# Altium integrated library TI Interface LVDS M-LVDS ECL CML.IntLib: 251 symbols (part 3 of 10)
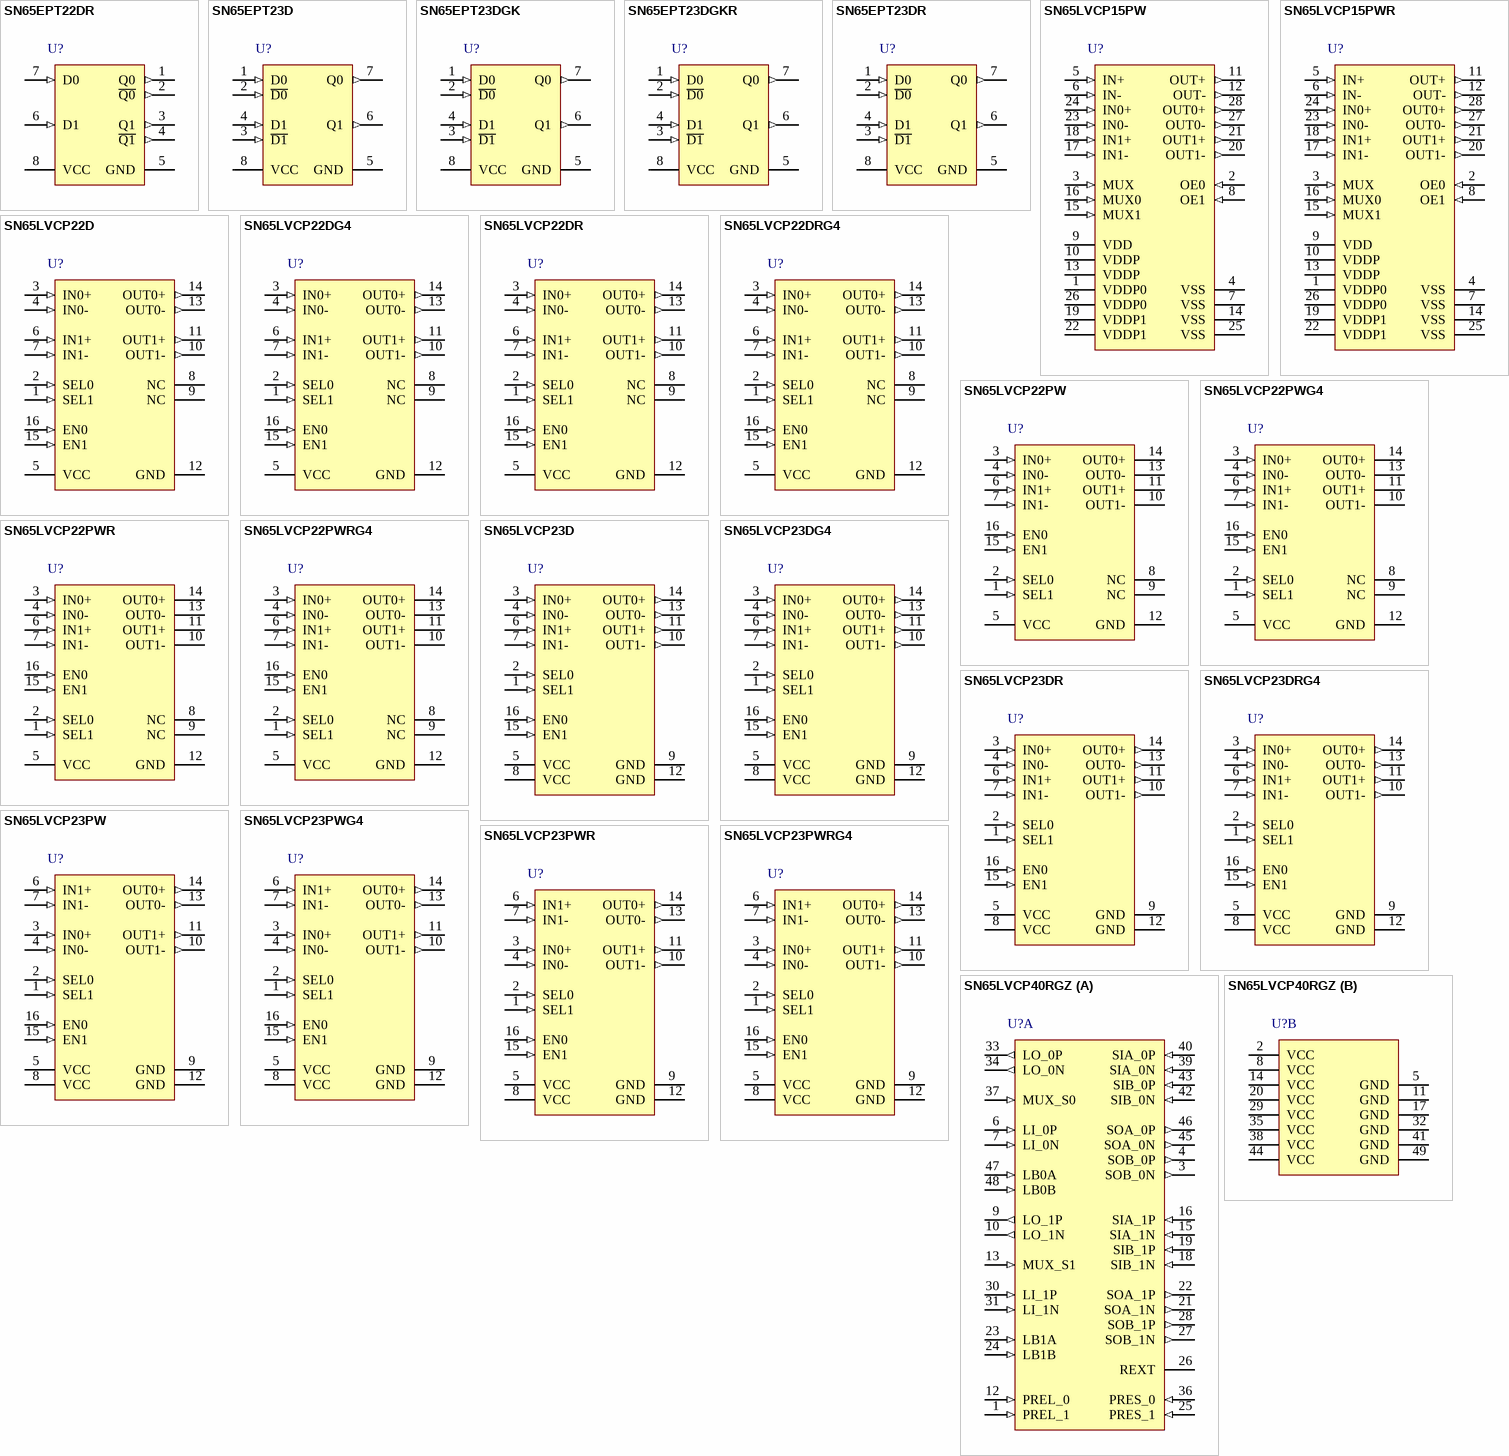
[diagram p11: symbols SN65EPT22DR to SN65LVCP40RGZ]

## SN65LVCP23PWG4
designator U?
1300 Mbps 2 x 2 Crosspoint Switch : LVPECL Outputs with CML, LVDS, LVPECL Input and LVPECL Output, 2 Tx and 2 Rx, -40 to +85 degC, 16-pin TSSOP (PW), Green (RoHS & no Sb/Br); Part-to-Part Skew(Max)(ps): 100; Manufacturer: Texas Instruments; PartNumber: SN65LVCP23PWG4; Crosspoint-Switch: TRUE; ESD HBM(kV): 5; ICC(Max)(mA): 65; No. of Rx: 2; Signaling Rate(Mbps): 1300; SubFamily: Crosspoint-Switch (>1Gbps); DatasheetVersion: SLLS554E; PackageVersion: revG, Feb-2011; PackageReference: PW16; PackageDescription: 16-Pin Plastic Thin Small Outline Package 5 x 4.4 mm Body ,0.65 mm Pitch; Eco-Plan: Green (RoHS & no Sb/Br); Function: Crosspoint; Input Signal: CML, LVDS, LVPECL; No. of Tx: 2; Output Signal: LVPECL; Peak-to-Peak Jitter(Max)(ps): 100; Mounting Technology: Surface Mount; Code_JEDEC: MO-153; ComponentLink1Description: Datasheet; ComponentLink1URL: http://www.ti.com/general/docs/lit/getliterature.tsp?genericPartNumber=SN65LVCP23&fileType=pdf; ComponentLink2Description: URL Link1; ComponentLink2URL: SamplesURL:http://www.ti.com/product/sn65lvcp23#samples
footprint PW16_N (TSOP, 16-Leads, Body 5x4.4mm, Pitch 0.65mm, IPC Medium Density)
footprint PW16_L (TSOP, 16-Leads, Body 5x4.4mm, Pitch 0.65mm, IPC High Density)
footprint PW16_M (TSOP, 16-Leads, Body 5x4.4mm, Pitch 0.65mm, IPC Low Density)
pins: 1 SEL1 (in), 2 SEL0 (in), 3 IN0+ (in), 4 IN0- (in), 5 VCC (power), 6 IN1+ (in), 7 IN1- (in), 8 VCC (power), 9 GND (power), 10 OUT1- (out), 11 OUT1+ (out), 12 GND (power), 13 OUT0- (out), 14 OUT0+ (out), 15 EN1 (in), 16 EN0 (in)

## SN65LVCP23PWR
designator U?
1300 Mbps 2 x 2 Crosspoint Switch : LVPECL Outputs with CML, LVDS, LVPECL Input and LVPECL Output, 2 Tx and 2 Rx, -40 to +85 degC, 16-pin TSSOP (PW), Green (RoHS & no Sb/Br); Part-to-Part Skew(Max)(ps): 100; Manufacturer: Texas Instruments; PartNumber: SN65LVCP23PWR; Crosspoint-Switch: TRUE; ESD HBM(kV): 5; ICC(Max)(mA): 65; No. of Rx: 2; Signaling Rate(Mbps): 1300; SubFamily: Crosspoint-Switch (>1Gbps); DatasheetVersion: SLLS554E; PackageVersion: revG, Feb-2011; PackageReference: PW16; PackageDescription: 16-Pin Plastic Thin Small Outline Package 5 x 4.4 mm Body ,0.65 mm Pitch; Eco-Plan: Green (RoHS & no Sb/Br); Function: Crosspoint; Input Signal: CML, LVDS, LVPECL; No. of Tx: 2; Output Signal: LVPECL; Peak-to-Peak Jitter(Max)(ps): 100; Mounting Technology: Surface Mount; Code_JEDEC: MO-153; ComponentLink1Description: Datasheet; ComponentLink1URL: http://www.ti.com/general/docs/lit/getliterature.tsp?genericPartNumber=SN65LVCP23&fileType=pdf; ComponentLink2Description: URL Link1; ComponentLink2URL: SamplesURL:http://www.ti.com/product/sn65lvcp23#samples
footprint PW16_N (TSOP, 16-Leads, Body 5x4.4mm, Pitch 0.65mm, IPC Medium Density)
footprint PW16_L (TSOP, 16-Leads, Body 5x4.4mm, Pitch 0.65mm, IPC High Density)
footprint PW16_M (TSOP, 16-Leads, Body 5x4.4mm, Pitch 0.65mm, IPC Low Density)
pins: 1 SEL1 (in), 2 SEL0 (in), 3 IN0+ (in), 4 IN0- (in), 5 VCC (power), 6 IN1+ (in), 7 IN1- (in), 8 VCC (power), 9 GND (power), 10 OUT1- (out), 11 OUT1+ (out), 12 GND (power), 13 OUT0- (out), 14 OUT0+ (out), 15 EN1 (in), 16 EN0 (in)

## SN65LVCP23PWRG4
designator U?
1300 Mbps 2x2 Crosspoint Switch : LVPECL Outputs with CML, LVDS, LVPECL Input, 2 Tx and 2 Rx, -40 to +85 degC, 16-pin TSSOP (PW), Green (RoHS & no Sb/Br); Part-to-Part Skew(Max)(ps): 100; Manufacturer: Texas Instruments; PartNumber: SN65LVCP23PWRG4; Crosspoint-Switch: TRUE; ESD HBM(kV): 5; ICC(Max)(mA): 65; No. of Rx: 2; Signaling Rate(Mbps): 1300; SubFamily: Crosspoint-Switch (>1Gbps); DatasheetVersion: SLLS554E; PackageVersion: revG, Feb-2011; PackageReference: PW16; PackageDescription: 16-Pin Plastic Thin Small Outline Package 5 x 4.4 mm Body ,0.65 mm Pitch; Eco-Plan: Green (RoHS & no Sb/Br); Function: Crosspoint; Input Signal: CML, LVDS, LVPECL; No. of Tx: 2; Output Signal: LVPECL; Peak-to-Peak Jitter(Max)(ps): 100; Mounting Technology: Surface Mount; Code_JEDEC: MO-153; ComponentLink1Description: Datasheet; ComponentLink1URL: http://www.ti.com/general/docs/lit/getliterature.tsp?genericPartNumber=SN65LVCP23&fileType=pdf; ComponentLink2Description: URL Link1; ComponentLink2URL: SamplesURL:http://www.ti.com/product/sn65lvcp23#samples
footprint PW16_N (TSOP, 16-Leads, Body 5x4.4mm, Pitch 0.65mm, IPC Medium Density)
footprint PW16_L (TSOP, 16-Leads, Body 5x4.4mm, Pitch 0.65mm, IPC High Density)
footprint PW16_M (TSOP, 16-Leads, Body 5x4.4mm, Pitch 0.65mm, IPC Low Density)
pins: 1 SEL1 (in), 2 SEL0 (in), 3 IN0+ (in), 4 IN0- (in), 5 VCC (power), 6 IN1+ (in), 7 IN1- (in), 8 VCC (power), 9 GND (power), 10 OUT1- (out), 11 OUT1+ (out), 12 GND (power), 13 OUT0- (out), 14 OUT0+ (out), 15 EN1 (in), 16 EN0 (in)

## SN65LVCP40RGZ
designator U?
4000 Mbps DC to 4-GBPS Dual 1:2 MUX / Repeater / Equalizer with CML, LVDS, LVPECL Input and VML Output, 6 Tx and 4 Rx, -40 to +85 degC, 48-pin VQFN (RGZ), Green (RoHS & no Sb/Br); Part-to-Part Skew(Max)(ps): 500; Manufacturer: Texas Instruments; PartNumber: SN65LVCP40RGZ; ESD HBM(kV): 2; Function: SerDes; ICC(Max)(mA): 300; No. of Rx: 4; No. of Tx: 6; Peak-to-Peak Jitter(Max)(ps): 30; Signaling Rate(Mbps): 4000; SubFamily: Crosspoint-Switch (>1Gbps); DatasheetVersion: SLLS623D; PackageVersion: revF, Jun-2011; PackageReference: RGZ48-4100X4100TP; PackageDescription: 48-Pin Plastic Quad Flatpack No-Lead, 7 x 7 mm Body, 0.5 mm Pitch; Supplier 1: Digi-Key; Supplier Part Number 1: 296-17506-ND; Supplier 2: Newark; Supplier Part Number 2: 65J6714; Supplier 3: Mouser; Supplier Part Number 3: 595-SN65LVCP40RGZ; Eco-Plan: Green (RoHS & no Sb/Br); Input Signal: CML, LVDS, LVPECL; Output Signal: VML; Mounting Technology: Surface Mount; Code_JEDEC: MO-220; ComponentLink1Description: Datasheet; ComponentLink1URL: http://www.ti.com/general/docs/lit/getliterature.tsp?genericPartNumber=SN65LVCP40&fileType=pdf; ComponentLink2Description: URL Link1; ComponentLink2URL: SamplesURL:http://www.ti.com/product/sn65lvcp40#samples
footprint RGZ48-4100X4100TP (QFN, 48-Leads, Body 7x7mm, Pitch 0.5mm, Thermal Pad 5.15x5.15mm, TI Recommended)
part A pins: 1 PREL_1 (in) "Output preemphasis control, line side port_0 and port_1. Has internal pull-up. See Preemphasis Controls PREL_0, PREL_1, PRES_0 and PRES for function definition.", 3 SOB_0N (out) "Differential output, mux_0 switch_B_side", 4 SOB_0P (out) "Differential output, mux_0 switch_B_side", 6 LI_0P (in) "Differential input, port_0 line side", 7 LI_0N (in) "Differential input, port_0 line side", 9 LO_1P (out) "Differential output, port_1 line side", 10 LO_1N (out) "Differential output, port_1 line side", 12 PREL_0 (in) "Output preemphasis control, line side port_0 and port_1. Has internal pull-up. See Preemphasis Controls PREL_0, PREL_1, PRES_0 and PRES for function definition.", 13 MUX_S1 (in) "Port A and B multiplex control of mux_0 and mux_1. See Multiplex Controls MUX_S0 and MUX_S1 for function definition.", 15 SIA_1N (in) "Differential input, mux_1 switch_A_side", 16 SIA_1P (in) "Differential input, mux_1 switch_A_side", 18 SIB_1N (in) "Differential input, mux_1 switch_B_side", 19 SIB_1P (in) "Differential input, mux_1 switch_B_side", 21 SOA_1N (out) "Differential output, mux_1 switch_A_side", 22 SOA_1P (out) "Differential output, mux_1 switch_A_side", 23 LB1A (in) "Loopback control for mux_1 switch side. See Loopback Controls LB0A, LB0B, LB1A and LB1B for function definition.", 24 LB1B (in) "Loopback control for mux_1 switch side. See Loopback Controls LB0A, LB0B, LB1A and LB1B for function definition.", 25 PRES_1 (in) "Output preemphasis control, switch side port_0 and port_1. See Preemphasis Controls PREL_0, PREL_1, PRES_0 and PRES for function definition.", 26 REXT "No connect. This pin is unused and can be left open or tied to GND with any resistor.", 27 SOB_1N (out) "Differential output, mux_1 switch_B_side", 28 SOB_1P (out) "Differential output, mux_1 switch_B_side", 30 LI_1P (in) "Differential input, port_1 line side", 31 LI_1N (in) "Differential input, port_1 line side", 33 LO_0P (out) "Differential output, port_0 line side", 34 LO_0N (out) "Differential output, port_0 line side", 36 PRES_0 (in) "Output preemphasis control, switch side port_0 and port_1. See Preemphasis Controls PREL_0, PREL_1, PRES_0 and PRES for function definition.", 37 MUX_S0 (in) "Port A and B multiplex control of mux_0 and mux_1. See Multiplex Controls MUX_S0 and MUX_S1 for function definition.", 39 SIA_0N (in) "Differential input, mux_0 switch_A_side", 40 SIA_0P (in) "Differential input, mux_0 switch_A_side", 42 SIB_0N (in) "Differential input, mux_0 switch_B_side", 43 SIB_0P (in) "Differential input, mux_0 switch_B_side", 45 SOA_0N (out) "Differential output, mux_0 switch_A_side", 46 SOA_0P (out) "Differential output, mux_0 switch_A_side", 47 LB0A (in) "Loopback control for mux_0 switch side. See Loopback Controls LB0A,LB0B, LB1A and LB1B for function definition.", 48 LB0B (in) "Loopback control for mux_0 switch side. See Loopback Controls LB0A,LB0B, LB1A and LB1B for function definition."
part B pins: 2 VCC (power) "Power supply 3.3 V +/-5%", 5 GND (power) "Power supply return", 8 VCC (power) "Power supply 3.3 V +/-5%", 11 GND (power) "Power supply return", 14 VCC (power) "Power supply 3.3 V +/-5%", 17 GND (power) "Power supply return", 20 VCC (power) "Power supply 3.3 V +/-5%", 29 VCC (power) "Power supply 3.3 V +/-5%", 32 GND (power) "Power supply return", 35 VCC (power) "Power supply 3.3 V +/-5%", 38 VCC (power) "Power supply 3.3 V +/-5%", 41 GND (power) "Power supply return", 44 VCC (power) "Power supply 3.3 V +/-5%", 49 GND (power) "The ground center pad is the metal contact at the bottom of the 48-pin package. It must be connected to the GND plane. At least 4 vias are recommended to minimize inductance and provide a solid ground. See the package (See Datasheet)"

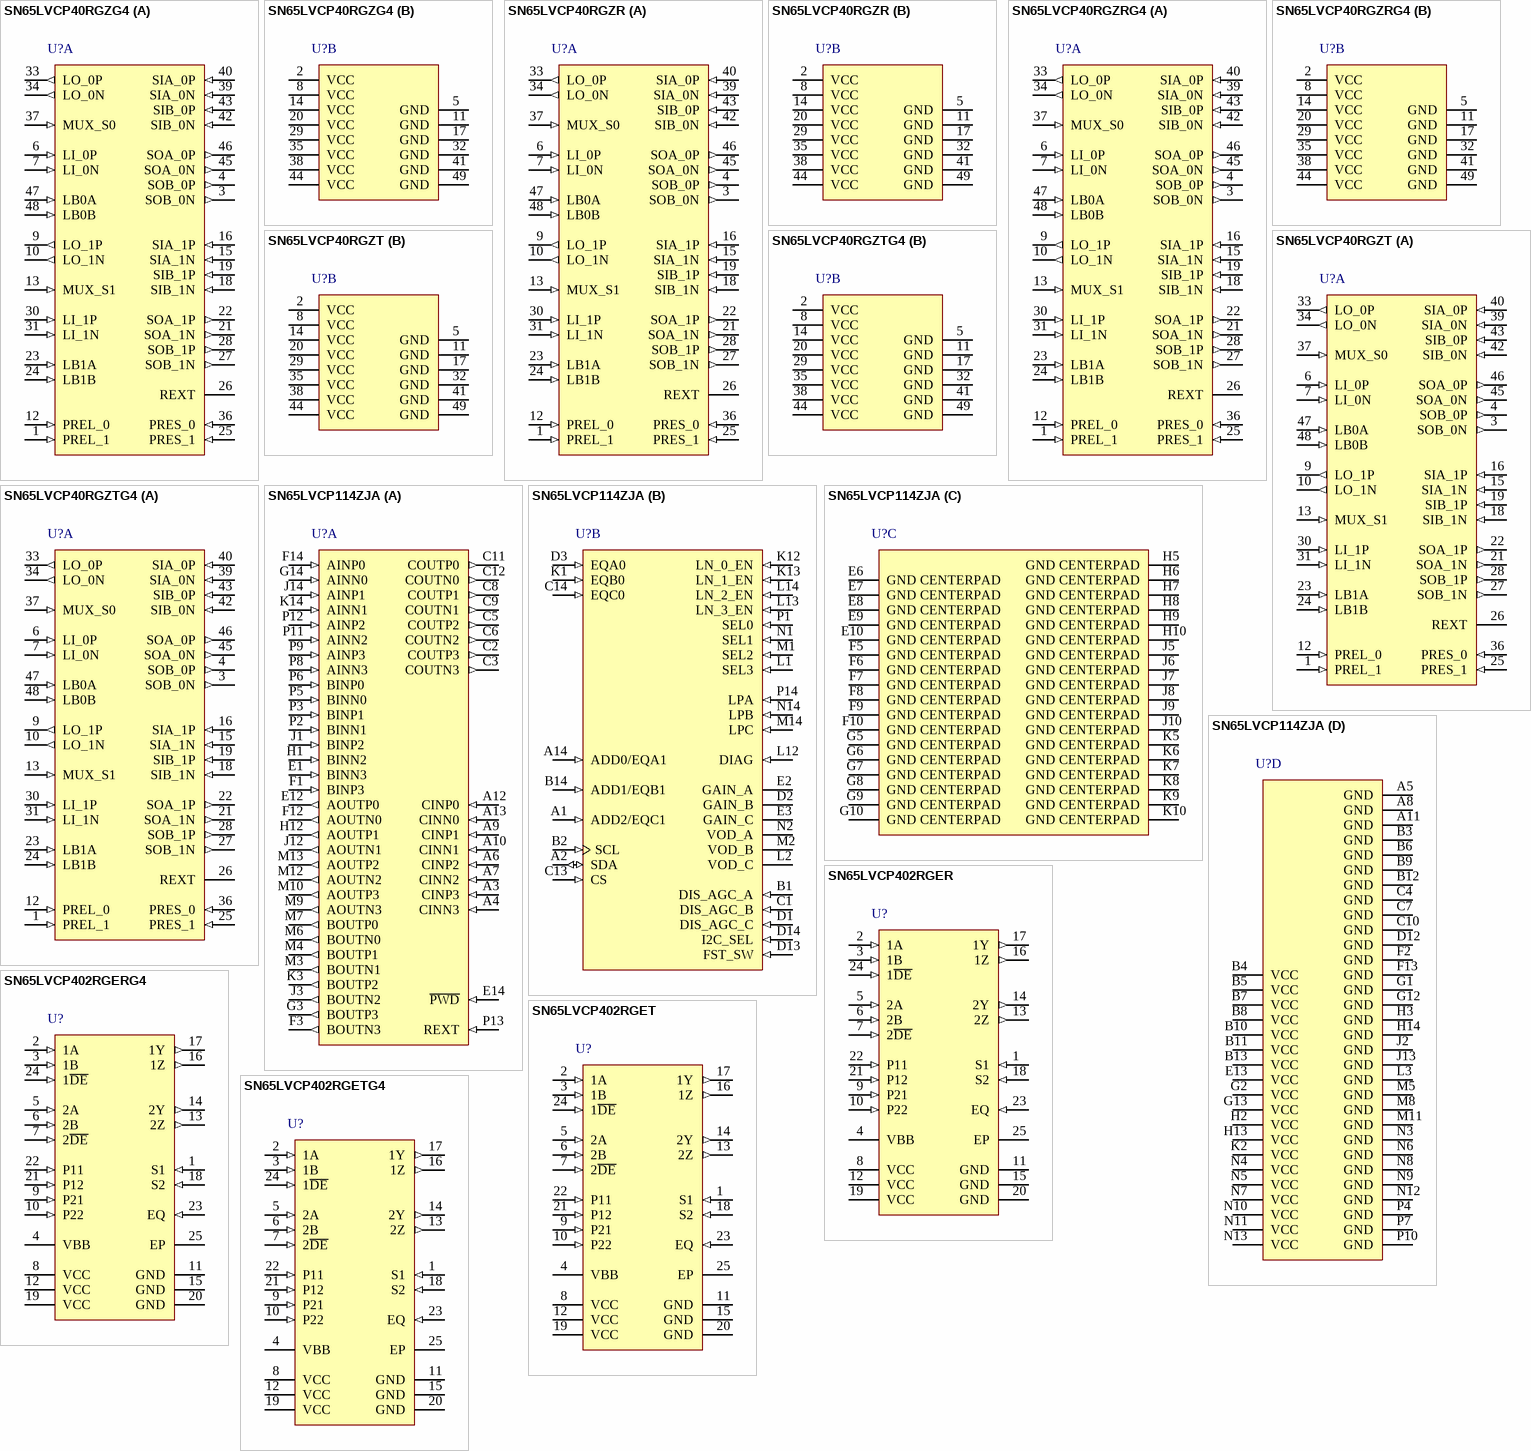
[diagram p2: symbols SN65LVCP40RGZG4 to SN65LVCP402RGETG4]

## SN65LVCP40RGZG4
designator U?
4000 Mbps DC to 4-GBPS Dual 1:2 MUX / Repeater / Equalizer with CML, LVDS, LVPECL Input and VML Output, 6 Tx and 4 Rx, -40 to +85 degC, 48-pin VQFN (RGZ), Green (RoHS & no Sb/Br); Part-to-Part Skew(Max)(ps): 500; Manufacturer: Texas Instruments; PartNumber: SN65LVCP40RGZG4; ESD HBM(kV): 2; Function: SerDes; ICC(Max)(mA): 300; No. of Rx: 4; No. of Tx: 6; Peak-to-Peak Jitter(Max)(ps): 30; Signaling Rate(Mbps): 4000; SubFamily: Crosspoint-Switch (>1Gbps); DatasheetVersion: SLLS623D; PackageVersion: revF, Jun-2011; PackageReference: RGZ48-4100X4100TP; PackageDescription: 48-Pin Plastic Quad Flatpack No-Lead, 7 x 7 mm Body, 0.5 mm Pitch; Supplier 1: Digi-Key; Supplier Part Number 1: SN65LVCP40RGZG4-ND; Supplier 2: Newark; Supplier Part Number 2: 81K3930; Supplier 3: Mouser; Supplier Part Number 3: 595-SN65LVCP40RGZG4; Eco-Plan: Green (RoHS & no Sb/Br); Input Signal: CML, LVDS, LVPECL; Output Signal: VML; Mounting Technology: Surface Mount; Code_JEDEC: MO-220; ComponentLink1Description: Datasheet; ComponentLink1URL: http://www.ti.com/general/docs/lit/getliterature.tsp?genericPartNumber=SN65LVCP40&fileType=pdf; ComponentLink2Description: URL Link1; ComponentLink2URL: SamplesURL:http://www.ti.com/product/sn65lvcp40#samples
footprint RGZ48-4100X4100TP (QFN, 48-Leads, Body 7x7mm, Pitch 0.5mm, Thermal Pad 5.15x5.15mm, TI Recommended)
part A pins: 1 PREL_1 (in) "Output preemphasis control, line side port_0 and port_1. Has internal pull-up. See Preemphasis Controls PREL_0, PREL_1, PRES_0 and PRES for function definition.", 3 SOB_0N (out) "Differential output, mux_0 switch_B_side", 4 SOB_0P (out) "Differential output, mux_0 switch_B_side", 6 LI_0P (in) "Differential input, port_0 line side", 7 LI_0N (in) "Differential input, port_0 line side", 9 LO_1P (out) "Differential output, port_1 line side", 10 LO_1N (out) "Differential output, port_1 line side", 12 PREL_0 (in) "Output preemphasis control, line side port_0 and port_1. Has internal pull-up. See Preemphasis Controls PREL_0, PREL_1, PRES_0 and PRES for function definition.", 13 MUX_S1 (in) "Port A and B multiplex control of mux_0 and mux_1. See Multiplex Controls MUX_S0 and MUX_S1 for function definition.", 15 SIA_1N (in) "Differential input, mux_1 switch_A_side", 16 SIA_1P (in) "Differential input, mux_1 switch_A_side", 18 SIB_1N (in) "Differential input, mux_1 switch_B_side", 19 SIB_1P (in) "Differential input, mux_1 switch_B_side", 21 SOA_1N (out) "Differential output, mux_1 switch_A_side", 22 SOA_1P (out) "Differential output, mux_1 switch_A_side", 23 LB1A (in) "Loopback control for mux_1 switch side. See Loopback Controls LB0A, LB0B, LB1A and LB1B for function definition.", 24 LB1B (in) "Loopback control for mux_1 switch side. See Loopback Controls LB0A, LB0B, LB1A and LB1B for function definition.", 25 PRES_1 (in) "Output preemphasis control, switch side port_0 and port_1. See Preemphasis Controls PREL_0, PREL_1, PRES_0 and PRES for function definition.", 26 REXT "No connect. This pin is unused and can be left open or tied to GND with any resistor.", 27 SOB_1N (out) "Differential output, mux_1 switch_B_side", 28 SOB_1P (out) "Differential output, mux_1 switch_B_side", 30 LI_1P (in) "Differential input, port_1 line side", 31 LI_1N (in) "Differential input, port_1 line side", 33 LO_0P (out) "Differential output, port_0 line side", 34 LO_0N (out) "Differential output, port_0 line side", 36 PRES_0 (in) "Output preemphasis control, switch side port_0 and port_1. See Preemphasis Controls PREL_0, PREL_1, PRES_0 and PRES for function definition.", 37 MUX_S0 (in) "Port A and B multiplex control of mux_0 and mux_1. See Multiplex Controls MUX_S0 and MUX_S1 for function definition.", 39 SIA_0N (in) "Differential input, mux_0 switch_A_side", 40 SIA_0P (in) "Differential input, mux_0 switch_A_side", 42 SIB_0N (in) "Differential input, mux_0 switch_B_side", 43 SIB_0P (in) "Differential input, mux_0 switch_B_side", 45 SOA_0N (out) "Differential output, mux_0 switch_A_side", 46 SOA_0P (out) "Differential output, mux_0 switch_A_side", 47 LB0A (in) "Loopback control for mux_0 switch side. See Loopback Controls LB0A,LB0B, LB1A and LB1B for function definition.", 48 LB0B (in) "Loopback control for mux_0 switch side. See Loopback Controls LB0A,LB0B, LB1A and LB1B for function definition."
part B pins: 2 VCC (power) "Power supply 3.3 V +/-5%", 5 GND (power) "Power supply return", 8 VCC (power) "Power supply 3.3 V +/-5%", 11 GND (power) "Power supply return", 14 VCC (power) "Power supply 3.3 V +/-5%", 17 GND (power) "Power supply return", 20 VCC (power) "Power supply 3.3 V +/-5%", 29 VCC (power) "Power supply 3.3 V +/-5%", 32 GND (power) "Power supply return", 35 VCC (power) "Power supply 3.3 V +/-5%", 38 VCC (power) "Power supply 3.3 V +/-5%", 41 GND (power) "Power supply return", 44 VCC (power) "Power supply 3.3 V +/-5%", 49 GND (power) "The ground center pad is the metal contact at the bottom of the 48-pin package. It must be connected to the GND plane. At least 4 vias are recommended to minimize inductance and provide a solid ground. See the package (See Datasheet)"

## SN65LVCP40RGZR
designator U?
4000 Mbps DC to 4-GBPS Dual 1:2 MUX / Repeater / Equalizer with CML, LVDS, LVPECL Input and VML Output, 6 Tx and 4 Rx, -40 to +85 degC, 48-pin VQFN (RGZ), Green (RoHS & no Sb/Br); Part-to-Part Skew(Max)(ps): 500; Manufacturer: Texas Instruments; PartNumber: SN65LVCP40RGZR; ESD HBM(kV): 2; Function: SerDes; ICC(Max)(mA): 300; No. of Rx: 4; No. of Tx: 6; Peak-to-Peak Jitter(Max)(ps): 30; Signaling Rate(Mbps): 4000; SubFamily: Crosspoint-Switch (>1Gbps); DatasheetVersion: SLLS623D; PackageVersion: revF, Jun-2011; PackageReference: RGZ48-4100X4100TP; PackageDescription: 48-Pin Plastic Quad Flatpack No-Lead, 7 x 7 mm Body, 0.5 mm Pitch; Supplier 1: Digi-Key; Supplier Part Number 1: SN65LVCP40RGZR-ND; Supplier 2: Newark; Supplier Part Number 2: 65J6715; Supplier 3: Mouser; Supplier Part Number 3: 595-SN65LVCP40RGZR; Eco-Plan: Green (RoHS & no Sb/Br); Input Signal: CML, LVDS, LVPECL; Output Signal: VML; Mounting Technology: Surface Mount; Code_JEDEC: MO-220; ComponentLink1Description: Datasheet; ComponentLink1URL: http://www.ti.com/general/docs/lit/getliterature.tsp?genericPartNumber=SN65LVCP40&fileType=pdf; ComponentLink2Description: URL Link1; ComponentLink2URL: SamplesURL:http://www.ti.com/product/sn65lvcp40#samples
footprint RGZ48-4100X4100TP (QFN, 48-Leads, Body 7x7mm, Pitch 0.5mm, Thermal Pad 5.15x5.15mm, TI Recommended)
part A pins: 1 PREL_1 (in) "Output preemphasis control, line side port_0 and port_1. Has internal pull-up. See Preemphasis Controls PREL_0, PREL_1, PRES_0 and PRES for function definition.", 3 SOB_0N (out) "Differential output, mux_0 switch_B_side", 4 SOB_0P (out) "Differential output, mux_0 switch_B_side", 6 LI_0P (in) "Differential input, port_0 line side", 7 LI_0N (in) "Differential input, port_0 line side", 9 LO_1P (out) "Differential output, port_1 line side", 10 LO_1N (out) "Differential output, port_1 line side", 12 PREL_0 (in) "Output preemphasis control, line side port_0 and port_1. Has internal pull-up. See Preemphasis Controls PREL_0, PREL_1, PRES_0 and PRES for function definition.", 13 MUX_S1 (in) "Port A and B multiplex control of mux_0 and mux_1. See Multiplex Controls MUX_S0 and MUX_S1 for function definition.", 15 SIA_1N (in) "Differential input, mux_1 switch_A_side", 16 SIA_1P (in) "Differential input, mux_1 switch_A_side", 18 SIB_1N (in) "Differential input, mux_1 switch_B_side", 19 SIB_1P (in) "Differential input, mux_1 switch_B_side", 21 SOA_1N (out) "Differential output, mux_1 switch_A_side", 22 SOA_1P (out) "Differential output, mux_1 switch_A_side", 23 LB1A (in) "Loopback control for mux_1 switch side. See Loopback Controls LB0A, LB0B, LB1A and LB1B for function definition.", 24 LB1B (in) "Loopback control for mux_1 switch side. See Loopback Controls LB0A, LB0B, LB1A and LB1B for function definition.", 25 PRES_1 (in) "Output preemphasis control, switch side port_0 and port_1. See Preemphasis Controls PREL_0, PREL_1, PRES_0 and PRES for function definition.", 26 REXT "No connect. This pin is unused and can be left open or tied to GND with any resistor.", 27 SOB_1N (out) "Differential output, mux_1 switch_B_side", 28 SOB_1P (out) "Differential output, mux_1 switch_B_side", 30 LI_1P (in) "Differential input, port_1 line side", 31 LI_1N (in) "Differential input, port_1 line side", 33 LO_0P (out) "Differential output, port_0 line side", 34 LO_0N (out) "Differential output, port_0 line side", 36 PRES_0 (in) "Output preemphasis control, switch side port_0 and port_1. See Preemphasis Controls PREL_0, PREL_1, PRES_0 and PRES for function definition.", 37 MUX_S0 (in) "Port A and B multiplex control of mux_0 and mux_1. See Multiplex Controls MUX_S0 and MUX_S1 for function definition.", 39 SIA_0N (in) "Differential input, mux_0 switch_A_side", 40 SIA_0P (in) "Differential input, mux_0 switch_A_side", 42 SIB_0N (in) "Differential input, mux_0 switch_B_side", 43 SIB_0P (in) "Differential input, mux_0 switch_B_side", 45 SOA_0N (out) "Differential output, mux_0 switch_A_side", 46 SOA_0P (out) "Differential output, mux_0 switch_A_side", 47 LB0A (in) "Loopback control for mux_0 switch side. See Loopback Controls LB0A,LB0B, LB1A and LB1B for function definition.", 48 LB0B (in) "Loopback control for mux_0 switch side. See Loopback Controls LB0A,LB0B, LB1A and LB1B for function definition."
part B pins: 2 VCC (power) "Power supply 3.3 V +/-5%", 5 GND (power) "Power supply return", 8 VCC (power) "Power supply 3.3 V +/-5%", 11 GND (power) "Power supply return", 14 VCC (power) "Power supply 3.3 V +/-5%", 17 GND (power) "Power supply return", 20 VCC (power) "Power supply 3.3 V +/-5%", 29 VCC (power) "Power supply 3.3 V +/-5%", 32 GND (power) "Power supply return", 35 VCC (power) "Power supply 3.3 V +/-5%", 38 VCC (power) "Power supply 3.3 V +/-5%", 41 GND (power) "Power supply return", 44 VCC (power) "Power supply 3.3 V +/-5%", 49 GND (power) "The ground center pad is the metal contact at the bottom of the 48-pin package. It must be connected to the GND plane. At least 4 vias are recommended to minimize inductance and provide a solid ground. See the package (See Datasheet)"

## SN65LVCP40RGZRG4
designator U?
4000 Mbps DC to 4-GBPS Dual 1:2 MUX / Repeater / Equalizer with CML, LVDS, LVPECL Input and VML Output, 6 Tx and 4 Rx, -40 to +85 degC, 48-pin VQFN (RGZ), Green (RoHS & no Sb/Br); Part-to-Part Skew(Max)(ps): 500; Manufacturer: Texas Instruments; PartNumber: SN65LVCP40RGZRG4; ESD HBM(kV): 2; Function: SerDes; ICC(Max)(mA): 300; No. of Rx: 4; No. of Tx: 6; Peak-to-Peak Jitter(Max)(ps): 30; Signaling Rate(Mbps): 4000; SubFamily: Crosspoint-Switch (>1Gbps); DatasheetVersion: SLLS623D; PackageVersion: revF, Jun-2011; PackageReference: RGZ48-4100X4100TP; PackageDescription: 48-Pin Plastic Quad Flatpack No-Lead, 7 x 7 mm Body, 0.5 mm Pitch; Supplier 1: Digi-Key; Supplier Part Number 1: SN65LVCP40RGZRG4-ND; Supplier 2: Newark; Supplier Part Number 2: 81K3931; Supplier 3: Mouser; Supplier Part Number 3: 595-SN65LVCP40RGZRG4; Eco-Plan: Green (RoHS & no Sb/Br); Input Signal: CML, LVDS, LVPECL; Output Signal: VML; Mounting Technology: Surface Mount; Code_JEDEC: MO-220; ComponentLink1Description: Datasheet; ComponentLink1URL: http://www.ti.com/general/docs/lit/getliterature.tsp?genericPartNumber=SN65LVCP40&fileType=pdf; ComponentLink2Description: URL Link1; ComponentLink2URL: SamplesURL:http://www.ti.com/product/sn65lvcp40#samples
footprint RGZ48-4100X4100TP (QFN, 48-Leads, Body 7x7mm, Pitch 0.5mm, Thermal Pad 5.15x5.15mm, TI Recommended)
part A pins: 1 PREL_1 (in) "Output preemphasis control, line side port_0 and port_1. Has internal pull-up. See Preemphasis Controls PREL_0, PREL_1, PRES_0 and PRES for function definition.", 3 SOB_0N (out) "Differential output, mux_0 switch_B_side", 4 SOB_0P (out) "Differential output, mux_0 switch_B_side", 6 LI_0P (in) "Differential input, port_0 line side", 7 LI_0N (in) "Differential input, port_0 line side", 9 LO_1P (out) "Differential output, port_1 line side", 10 LO_1N (out) "Differential output, port_1 line side", 12 PREL_0 (in) "Output preemphasis control, line side port_0 and port_1. Has internal pull-up. See Preemphasis Controls PREL_0, PREL_1, PRES_0 and PRES for function definition.", 13 MUX_S1 (in) "Port A and B multiplex control of mux_0 and mux_1. See Multiplex Controls MUX_S0 and MUX_S1 for function definition.", 15 SIA_1N (in) "Differential input, mux_1 switch_A_side", 16 SIA_1P (in) "Differential input, mux_1 switch_A_side", 18 SIB_1N (in) "Differential input, mux_1 switch_B_side", 19 SIB_1P (in) "Differential input, mux_1 switch_B_side", 21 SOA_1N (out) "Differential output, mux_1 switch_A_side", 22 SOA_1P (out) "Differential output, mux_1 switch_A_side", 23 LB1A (in) "Loopback control for mux_1 switch side. See Loopback Controls LB0A, LB0B, LB1A and LB1B for function definition.", 24 LB1B (in) "Loopback control for mux_1 switch side. See Loopback Controls LB0A, LB0B, LB1A and LB1B for function definition.", 25 PRES_1 (in) "Output preemphasis control, switch side port_0 and port_1. See Preemphasis Controls PREL_0, PREL_1, PRES_0 and PRES for function definition.", 26 REXT "No connect. This pin is unused and can be left open or tied to GND with any resistor.", 27 SOB_1N (out) "Differential output, mux_1 switch_B_side", 28 SOB_1P (out) "Differential output, mux_1 switch_B_side", 30 LI_1P (in) "Differential input, port_1 line side", 31 LI_1N (in) "Differential input, port_1 line side", 33 LO_0P (out) "Differential output, port_0 line side", 34 LO_0N (out) "Differential output, port_0 line side", 36 PRES_0 (in) "Output preemphasis control, switch side port_0 and port_1. See Preemphasis Controls PREL_0, PREL_1, PRES_0 and PRES for function definition.", 37 MUX_S0 (in) "Port A and B multiplex control of mux_0 and mux_1. See Multiplex Controls MUX_S0 and MUX_S1 for function definition.", 39 SIA_0N (in) "Differential input, mux_0 switch_A_side", 40 SIA_0P (in) "Differential input, mux_0 switch_A_side", 42 SIB_0N (in) "Differential input, mux_0 switch_B_side", 43 SIB_0P (in) "Differential input, mux_0 switch_B_side", 45 SOA_0N (out) "Differential output, mux_0 switch_A_side", 46 SOA_0P (out) "Differential output, mux_0 switch_A_side", 47 LB0A (in) "Loopback control for mux_0 switch side. See Loopback Controls LB0A,LB0B, LB1A and LB1B for function definition.", 48 LB0B (in) "Loopback control for mux_0 switch side. See Loopback Controls LB0A,LB0B, LB1A and LB1B for function definition."
part B pins: 2 VCC (power) "Power supply 3.3 V +/-5%", 5 GND (power) "Power supply return", 8 VCC (power) "Power supply 3.3 V +/-5%", 11 GND (power) "Power supply return", 14 VCC (power) "Power supply 3.3 V +/-5%", 17 GND (power) "Power supply return", 20 VCC (power) "Power supply 3.3 V +/-5%", 29 VCC (power) "Power supply 3.3 V +/-5%", 32 GND (power) "Power supply return", 35 VCC (power) "Power supply 3.3 V +/-5%", 38 VCC (power) "Power supply 3.3 V +/-5%", 41 GND (power) "Power supply return", 44 VCC (power) "Power supply 3.3 V +/-5%", 49 GND (power) "The ground center pad is the metal contact at the bottom of the 48-pin package. It must be connected to the GND plane. At least 4 vias are recommended to minimize inductance and provide a solid ground. See the package (See Datasheet)"

## SN65LVCP40RGZT
designator U?
4 Gbps DC to Dual 1:2 MUX / Repeater / Equalizer, 6 Tx and 4 Rx, -40 to +85 degC, 48-pin VQFN (RGZ), Green (RoHS & no Sb/Br); Part-to-Part Skew(Max)(ps): 500; Manufacturer: Texas Instruments; PartNumber: SN65LVCP40RGZT; ESD HBM(kV): 2; Function: SerDes; ICC(Max)(mA): 300; Input Signal: CML, LVDS, LVPECL; No. of Rx: 4; No. of Tx: 6; Output Signal: VML; Peak-to-Peak Jitter(Max)(ps): 30; Signaling Rate(Mbps): 4000; SubFamily: Crosspoint-Switch (>1Gbps); DatasheetVersion: SLLS623D; PackageVersion: revF, Jun-2011; PackageReference: RGZ48-4100X4100TP; PackageDescription: 48-Pin Plastic Quad Flatpack No-Lead, 7 x 7 mm Body, 0.5 mm Pitch; Supplier 1: Digi-Key; Supplier Part Number 1: 296-21987-1-ND; Supplier 2: Digi-Key; Supplier Part Number 2: 296-21987-6-ND; Supplier 3: Digi-Key; Supplier Part Number 3: 296-21987-2-ND; Supplier 4: Newark; Supplier Part Number 4: 52M6010; Supplier 5: Mouser; Supplier Part Number 5: 595-SN65LVCP40RGZT; Eco-Plan: Green (RoHS & no Sb/Br); Mounting Technology: Surface Mount; Code_JEDEC: MO-220; ComponentLink1Description: Datasheet; ComponentLink1URL: http://www.ti.com/general/docs/lit/getliterature.tsp?genericPartNumber=SN65LVCP40&fileType=pdf; ComponentLink2Description: URL Link1; ComponentLink2URL: SamplesURL:http://www.ti.com/product/sn65lvcp40#samples
footprint RGZ48-4100X4100TP (QFN, 48-Leads, Body 7x7mm, Pitch 0.5mm, Thermal Pad 5.15x5.15mm, TI Recommended)
part A pins: 1 PREL_1 (in) "Output preemphasis control, line side port_0 and port_1. Has internal pull-up. See Preemphasis Controls PREL_0, PREL_1, PRES_0 and PRES for function definition.", 3 SOB_0N (out) "Differential output, mux_0 switch_B_side", 4 SOB_0P (out) "Differential output, mux_0 switch_B_side", 6 LI_0P (in) "Differential input, port_0 line side", 7 LI_0N (in) "Differential input, port_0 line side", 9 LO_1P (out) "Differential output, port_1 line side", 10 LO_1N (out) "Differential output, port_1 line side", 12 PREL_0 (in) "Output preemphasis control, line side port_0 and port_1. Has internal pull-up. See Preemphasis Controls PREL_0, PREL_1, PRES_0 and PRES for function definition.", 13 MUX_S1 (in) "Port A and B multiplex control of mux_0 and mux_1. See Multiplex Controls MUX_S0 and MUX_S1 for function definition.", 15 SIA_1N (in) "Differential input, mux_1 switch_A_side", 16 SIA_1P (in) "Differential input, mux_1 switch_A_side", 18 SIB_1N (in) "Differential input, mux_1 switch_B_side", 19 SIB_1P (in) "Differential input, mux_1 switch_B_side", 21 SOA_1N (out) "Differential output, mux_1 switch_A_side", 22 SOA_1P (out) "Differential output, mux_1 switch_A_side", 23 LB1A (in) "Loopback control for mux_1 switch side. See Loopback Controls LB0A, LB0B, LB1A and LB1B for function definition.", 24 LB1B (in) "Loopback control for mux_1 switch side. See Loopback Controls LB0A, LB0B, LB1A and LB1B for function definition.", 25 PRES_1 (in) "Output preemphasis control, switch side port_0 and port_1. See Preemphasis Controls PREL_0, PREL_1, PRES_0 and PRES for function definition.", 26 REXT "No connect. This pin is unused and can be left open or tied to GND with any resistor.", 27 SOB_1N (out) "Differential output, mux_1 switch_B_side", 28 SOB_1P (out) "Differential output, mux_1 switch_B_side", 30 LI_1P (in) "Differential input, port_1 line side", 31 LI_1N (in) "Differential input, port_1 line side", 33 LO_0P (out) "Differential output, port_0 line side", 34 LO_0N (out) "Differential output, port_0 line side", 36 PRES_0 (in) "Output preemphasis control, switch side port_0 and port_1. See Preemphasis Controls PREL_0, PREL_1, PRES_0 and PRES for function definition.", 37 MUX_S0 (in) "Port A and B multiplex control of mux_0 and mux_1. See Multiplex Controls MUX_S0 and MUX_S1 for function definition.", 39 SIA_0N (in) "Differential input, mux_0 switch_A_side", 40 SIA_0P (in) "Differential input, mux_0 switch_A_side", 42 SIB_0N (in) "Differential input, mux_0 switch_B_side", 43 SIB_0P (in) "Differential input, mux_0 switch_B_side", 45 SOA_0N (out) "Differential output, mux_0 switch_A_side", 46 SOA_0P (out) "Differential output, mux_0 switch_A_side", 47 LB0A (in) "Loopback control for mux_0 switch side. See Loopback Controls LB0A,LB0B, LB1A and LB1B for function definition.", 48 LB0B (in) "Loopback control for mux_0 switch side. See Loopback Controls LB0A,LB0B, LB1A and LB1B for function definition."
part B pins: 2 VCC (power) "Power supply 3.3 V +/-5%", 5 GND (power) "Power supply return", 8 VCC (power) "Power supply 3.3 V +/-5%", 11 GND (power) "Power supply return", 14 VCC (power) "Power supply 3.3 V +/-5%", 17 GND (power) "Power supply return", 20 VCC (power) "Power supply 3.3 V +/-5%", 29 VCC (power) "Power supply 3.3 V +/-5%", 32 GND (power) "Power supply return", 35 VCC (power) "Power supply 3.3 V +/-5%", 38 VCC (power) "Power supply 3.3 V +/-5%", 41 GND (power) "Power supply return", 44 VCC (power) "Power supply 3.3 V +/-5%", 49 GND (power) "The ground center pad is the metal contact at the bottom of the 48-pin package. It must be connected to the GND plane. At least 4 vias are recommended to minimize inductance and provide a solid ground. See the package (See Datasheet)"

## SN65LVCP40RGZTG4
designator U?
4000 Mbps DC to 4-GBPS Dual 1:2 MUX / Repeater / Equalizer with CML, LVDS, LVPECL Input and VML Output, 6 Tx and 4 Rx, -40 to +85 degC, 48-pin VQFN (RGZ), Green (RoHS & no Sb/Br); Part-to-Part Skew(Max)(ps): 500; Manufacturer: Texas Instruments; PartNumber: SN65LVCP40RGZTG4; ESD HBM(kV): 2; Function: SerDes; ICC(Max)(mA): 300; No. of Rx: 4; No. of Tx: 6; Peak-to-Peak Jitter(Max)(ps): 30; Signaling Rate(Mbps): 4000; SubFamily: Crosspoint-Switch (>1Gbps); DatasheetVersion: SLLS623D; PackageVersion: revF, Jun-2011; PackageReference: RGZ48-4100X4100TP; PackageDescription: 48-Pin Plastic Quad Flatpack No-Lead, 7 x 7 mm Body, 0.5 mm Pitch; Supplier 1: Digi-Key; Supplier Part Number 1: SN65LVCP40RGZTG4-ND; Supplier 2: Newark; Supplier Part Number 2: 52M6011; Supplier 3: Mouser; Supplier Part Number 3: 595-SN65LVCP40RGZTG4; Eco-Plan: Green (RoHS & no Sb/Br); Input Signal: CML, LVDS, LVPECL; Output Signal: VML; Mounting Technology: Surface Mount; Code_JEDEC: MO-220; ComponentLink1Description: Datasheet; ComponentLink1URL: http://www.ti.com/general/docs/lit/getliterature.tsp?genericPartNumber=SN65LVCP40&fileType=pdf; ComponentLink2Description: URL Link1; ComponentLink2URL: SamplesURL:http://www.ti.com/product/sn65lvcp40#samples
footprint RGZ48-4100X4100TP (QFN, 48-Leads, Body 7x7mm, Pitch 0.5mm, Thermal Pad 5.15x5.15mm, TI Recommended)
part A pins: 1 PREL_1 (in) "Output preemphasis control, line side port_0 and port_1. Has internal pull-up. See Preemphasis Controls PREL_0, PREL_1, PRES_0 and PRES for function definition.", 3 SOB_0N (out) "Differential output, mux_0 switch_B_side", 4 SOB_0P (out) "Differential output, mux_0 switch_B_side", 6 LI_0P (in) "Differential input, port_0 line side", 7 LI_0N (in) "Differential input, port_0 line side", 9 LO_1P (out) "Differential output, port_1 line side", 10 LO_1N (out) "Differential output, port_1 line side", 12 PREL_0 (in) "Output preemphasis control, line side port_0 and port_1. Has internal pull-up. See Preemphasis Controls PREL_0, PREL_1, PRES_0 and PRES for function definition.", 13 MUX_S1 (in) "Port A and B multiplex control of mux_0 and mux_1. See Multiplex Controls MUX_S0 and MUX_S1 for function definition.", 15 SIA_1N (in) "Differential input, mux_1 switch_A_side", 16 SIA_1P (in) "Differential input, mux_1 switch_A_side", 18 SIB_1N (in) "Differential input, mux_1 switch_B_side", 19 SIB_1P (in) "Differential input, mux_1 switch_B_side", 21 SOA_1N (out) "Differential output, mux_1 switch_A_side", 22 SOA_1P (out) "Differential output, mux_1 switch_A_side", 23 LB1A (in) "Loopback control for mux_1 switch side. See Loopback Controls LB0A, LB0B, LB1A and LB1B for function definition.", 24 LB1B (in) "Loopback control for mux_1 switch side. See Loopback Controls LB0A, LB0B, LB1A and LB1B for function definition.", 25 PRES_1 (in) "Output preemphasis control, switch side port_0 and port_1. See Preemphasis Controls PREL_0, PREL_1, PRES_0 and PRES for function definition.", 26 REXT "No connect. This pin is unused and can be left open or tied to GND with any resistor.", 27 SOB_1N (out) "Differential output, mux_1 switch_B_side", 28 SOB_1P (out) "Differential output, mux_1 switch_B_side", 30 LI_1P (in) "Differential input, port_1 line side", 31 LI_1N (in) "Differential input, port_1 line side", 33 LO_0P (out) "Differential output, port_0 line side", 34 LO_0N (out) "Differential output, port_0 line side", 36 PRES_0 (in) "Output preemphasis control, switch side port_0 and port_1. See Preemphasis Controls PREL_0, PREL_1, PRES_0 and PRES for function definition.", 37 MUX_S0 (in) "Port A and B multiplex control of mux_0 and mux_1. See Multiplex Controls MUX_S0 and MUX_S1 for function definition.", 39 SIA_0N (in) "Differential input, mux_0 switch_A_side", 40 SIA_0P (in) "Differential input, mux_0 switch_A_side", 42 SIB_0N (in) "Differential input, mux_0 switch_B_side", 43 SIB_0P (in) "Differential input, mux_0 switch_B_side", 45 SOA_0N (out) "Differential output, mux_0 switch_A_side", 46 SOA_0P (out) "Differential output, mux_0 switch_A_side", 47 LB0A (in) "Loopback control for mux_0 switch side. See Loopback Controls LB0A,LB0B, LB1A and LB1B for function definition.", 48 LB0B (in) "Loopback control for mux_0 switch side. See Loopback Controls LB0A,LB0B, LB1A and LB1B for function definition."
part B pins: 2 VCC (power) "Power supply 3.3 V +/-5%", 5 GND (power) "Power supply return", 8 VCC (power) "Power supply 3.3 V +/-5%", 11 GND (power) "Power supply return", 14 VCC (power) "Power supply 3.3 V +/-5%", 17 GND (power) "Power supply return", 20 VCC (power) "Power supply 3.3 V +/-5%", 29 VCC (power) "Power supply 3.3 V +/-5%", 32 GND (power) "Power supply return", 35 VCC (power) "Power supply 3.3 V +/-5%", 38 VCC (power) "Power supply 3.3 V +/-5%", 41 GND (power) "Power supply return", 44 VCC (power) "Power supply 3.3 V +/-5%", 49 GND (power) "The ground center pad is the metal contact at the bottom of the 48-pin package. It must be connected to the GND plane. At least 4 vias are recommended to minimize inductance and provide a solid ground. See the package (See Datasheet)"

## SN65LVCP114ZJA
designator U?
14.2 Gbps Quad Mux, Linear-Redriver with Signal Conditioning with CML Input and CML Output, 4 or 8 Tx and 8 or 4 Rx, -40 to +85 degC, 167-pin NFBGA (ZJA), Green (RoHS & no Sb/Br); Manufacturer: Texas Instruments; PartNumber: SN65LVCP114ZJA; ESD HBM(kV): 4; Function: Equalizer and Redriver, Multiplexer; ICC(Max)(mA): 560; No. of Rx: 8-or-4; No. of Tx: 4-or-8; Signaling Rate(Mbps): 14200; SubFamily: Crosspoint-Switch (>1Gbps); DatasheetVersion: SLLSEA8; PackageVersion: revC, Nov-2010; PackageReference: ZJA167; PackageDescription: 167-Ball Plastic Ball Grid Array, 12 x 12 mm Body, 0.8 mm Pitch, Pb-Free; Supplier 1: Digi-Key; Supplier Part Number 1: SN65LVCP114ZJA-ND; Supplier 2: Newark; Supplier Part Number 2: 82T4171; Supplier 3: Mouser; Supplier Part Number 3: 595-SN65LVCP114ZJA; Eco-Plan: Green (RoHS & no Sb/Br); Input Signal: CML; Output Signal: CML; Mounting Technology: Surface Mount; ComponentLink1Description: Datasheet; ComponentLink1URL: http://www.ti.com/general/docs/lit/getliterature.tsp?genericPartNumber=SN65LVCP114&fileType=pdf; ComponentLink2Description: URL Link1; ComponentLink2URL: SamplesURL:http://www.ti.com/product/sn65lvcp114#samples
footprint ZJA167 (BGA, 167-Leads, Body 12x12mm, Pitch 0.8mm)
part A pins: A3 CINP3 (in) "Differential input, lane 3 line side", A4 CINN3 (in) "Differential input, lane 3 line side", A6 CINP2 (in) "Differential input, lane 2 line side", A7 CINN2 (in) "Differential input, lane 2 line side", A9 CINP1 (in) "Differential input, lane 1 line side", A10 CINN1 (in) "Differential input, lane 1 line side", A12 CINP0 (in) "Differential input, lane 0 line side.", A13 CINN0 (in) "Differential input, lane 0 line side.", C2 COUTP3 (out) "Differential output, lane 3 line side", C3 COUTN3 (out) "Differential output, lane 3 line side", C5 COUTP2 (out) "Differential output, lane 2 line side", C6 COUTN2 (out) "Differential output, lane 2 line side", C8 COUTP1 (out) "Differential output, lane 1 line side", C9 COUTN1 (out) "Differential output, lane 1 line side", C11 COUTP0 (out) "Differential output, lane 0 line side", C12 COUTN0 (out) "Differential output, lane 0 line side", E1 BINN3 (in) "Differential input, lane 3, fabric switch_B_side", E12 AOUTP0 (out) "Differential output, lane 0, fabric switch_A_side", E14 ~{PWD} (in) "LOW: Powers down the device, inputs off and outputs disabled, resets I2C HIGH: Normal operation", F1 BINP3 (in) "Differential input, lane 3, fabric switch_B_side", F3 BOUTN3 (out) "Differential output, lane 3, fabric switch_B_side", F12 AOUTN0 (out) "Differential output, lane 0, fabric switch_A_side", F14 AINP0 (in) "Differential input, lane 0, fabric switch_A_side", G3 BOUTP3 (out) "Differential output, lane 3, fabric switch_B_side", G14 AINN0 (in) "Differential input, lane 0, fabric switch_A_side", H1 BINN2 (in) "Differential input, lane 2, fabric switch_B_side", H12 AOUTP1 (out) "Differential output, lane 1, fabric switch_A_side", J1 BINP2 (in) "Differential input, lane 2, fabric switch_B_side", J3 BOUTN2 (out) "Differential output, lane 2, fabric switch_B_side", J12 AOUTN1 (out) "Differential output, lane 1, fabric switch_A_side", J14 AINP1 (in) "Differential input, lane 1, fabric switch_A_side", K3 BOUTP2 (out) "Differential output, lane 2, fabric switch_B_side", K14 AINN1 (in) "Differential input, lane 1, fabric switch_A_side", M3 BOUTN1 (out) "Differential output, lane 1, fabric switch_B_side", M4 BOUTP1 (out) "Differential output, lane 1, fabric switch_B_side", M6 BOUTN0 (out) "Differential output, lane 0, fabric switch_B_side", M7 BOUTP0 (out) "Differential output, lane 0, fabric switch_B_side", M9 AOUTN3 (out) "Differential output, lane 3, fabric switch_A_side", M10 AOUTP3 (out) "Differential output, lane 3, fabric switch_A_side", M12 AOUTN2 (out) "Differential output, lane 2, fabric switch_A_side", M13 AOUTP2 (out) "Differential output, lane 2, fabric switch_A_side", P2 BINN1 (in) "Differential input, lane 1, fabric switch_B_side", P3 BINP1 (in) "Differential input, lane 1, fabric switch_B_side", P5 BINN0 (in) "Differential input, lane 0, fabric switch_B_side", P6 BINP0 (in) "Differential input, lane 0, fabric switch_B_side", P8 AINN3 (in) "Differential input, lane 3, fabric switch_A_side", P9 AINP3 (in) "Differential input, lane 3, fabric switch_A_side", P11 AINN2 (in) "Differential input, lane 2, fabric switch_A_side", P12 AINP2 (in) "Differential input, lane 2, fabric switch_A_side", P13 REXT (in) "External bias resistor, 1,200 ohm to ground"
part B pins: A1 ADD2/EQC1 (in) "EQ control pins. EQC1 and EQC0 pins are 3-state and control the EQ gain of port C.", A2 SDA (io) "I2C mode I2C data. Connect a 10-k ohm pullup resistor externally", A14 ADD0/EQA1 (in) "EQ control pins. EQA1 and EQA0 pins are 3-state and control the EQ gain of port A.", B1 DIS_AGC_A (in) "Disables the AGC loop internal to the SN65LVCP114 DIS_AGC = High, disables the AGC loop DIS_AGC = Low, enables the AGC loop", B2 SCL (in) "I2C mode I2C clock. Connect a 10-k ohm pullup resistor externally", B14 ADD1/EQB1 (in) "EQ control pins. EQB1 and EQB0 pins are 3-state and control the EQ gain of port B.", C1 DIS_AGC_B (in) "Disables the AGC loop internal to the SN65LVCP114 DIS_AGC = High, disables the AGC loop DIS_AGC = Low, enables the AGC loop", C13 CS (in) "I2C mode HIGH: acts as chip select LOW: disables I2C interface", C14 EQC0 (in) "EQ control pins. EQC1 and EQC0 pins are 3-state and control the EQ gain of port C.", D1 DIS_AGC_C (in) "Disables the AGC loop internal to the SN65LVCP114 DIS_AGC = High, disables the AGC loop DIS_AGC = Low, enables the AGC loop", D2 GAIN_B "HIGH: Receiver gain = 1 LOW: Receiver gain = 0.5 If left floating, it defaults to 0.6", D3 EQA0 (in) "EQ control pins. EQA1 and EQA0 pins are 3-state and control the EQ gain of port A.", D13 FST_SW (in) "HIGH: Fast switching; the idle outputs are squelched (see Tsm specification).LOW: Slow switching; the idle outputs are powered off (see tSM1 specification).", D14 I2C_SEL (in) "Configures the device in I2C or GPIO mode of operation HIGH: Enables I2C mode LOW: Enables GPIO mode", E2 GAIN_A "HIGH: Receiver gain = 1 LOW: Receiver gain = 0.5 If left floating, it defaults to 0.5", E3 GAIN_C "HIGH: Receiver gain = 1 LOW: Receiver gain = 0.5 If left floating, it defaults to 0.7", K1 EQB0 (in) "EQ control pins. EQB1 and EQB0 pins are 3-state and control the EQ gain of port B.", K12 LN_0_EN (in) "LN_x_EN = High, enables lane x of ports A, B, and C LN_x_EN = Low, disables lane x of ports A, B, and C", K13 LN_1_EN (in) "LN_x_EN = High, enables lane x of ports A, B, and C LN_x_EN = Low, disables lane x of ports A, B, and C", L1 SEL3 (in) "SELx, A/B switch control for lane x HIGH: port B is selected LOW: port A is selected", L2 VOD_C "HIGH: selects VOD output range: 1.2 V maximum and a gain of 2.2 LOW: selects VOD output range: 600 mV maximum and a gain of 1.1 If left floating, it defaults to 1.2 V maximum and a gain of 2.2.", L12 DIAG (in) "HIGH: Enables the same data on the line side (Port C) to be output on both fabric side ports (Port A and Port B).LOW: Normal operation", L13 LN_3_EN (in) "LN_x_EN = High, enables lane x of ports A, B, and C LN_x_EN = Low, disables lane x of ports A, B, and C", L14 LN_2_EN (in) "LN_x_EN = High, enables lane x of ports A, B, and C LN_x_EN = Low, disables lane x of ports A, B, and C", M1 SEL2 (in) "SELx, A/B switch control for lane x HIGH: port B is selected LOW: port A is selected", M2 VOD_B "HIGH: selects VOD output range: 1.2 V maximum and a gain of 2.2 LOW: selects VOD output range: 600 mV maximum and a gain of 1.1 If left floating, it defaults to 1.2 V maximum and a gain of 2.2.", M14 LPC (in) "LPx enables loopback for port x HIGH: Loopback enabled LOW: Loopback disabled", N1 SEL1 (in) "SELx, A/B switch control for lane x HIGH: port B is selected LOW: port A is selected", N2 VOD_A "HIGH: selects VOD output range: 1.2 V maximum and a gain of 2.2 LOW: selects VOD output range: 600 mV maximum and a gain of 1.1 If left floating, it defaults to 1.2 V maximum and a gain of 2.2.", N14 LPB (in) "LPx enables loopback for port x HIGH: Loopback enabled LOW: Loopback disabled", P1 SEL0 (in) "SELx, A/B switch control for lane x HIGH: port B is selected LOW: port A is selected", P14 LPA (in) "LPx enables loopback for port x HIGH: Loopback enabled LOW: Loopback disabled"
part C pins: E6 GND CENTERPAD (power) "These pins must be connected to the GND plane.", E7 GND CENTERPAD (power) "These pins must be connected to the GND plane.", E8 GND CENTERPAD (power) "These pins must be connected to the GND plane.", E9 GND CENTERPAD (power) "These pins must be connected to the GND plane.", E10 GND CENTERPAD (power) "These pins must be connected to the GND plane.", F5 GND CENTERPAD (power) "These pins must be connected to the GND plane.", F6 GND CENTERPAD (power) "These pins must be connected to the GND plane.", F7 GND CENTERPAD (power) "These pins must be connected to the GND plane.", F8 GND CENTERPAD (power) "These pins must be connected to the GND plane.", F9 GND CENTERPAD (power) "These pins must be connected to the GND plane.", F10 GND CENTERPAD (power) "These pins must be connected to the GND plane.", G5 GND CENTERPAD (power) "These pins must be connected to the GND plane.", G6 GND CENTERPAD (power) "These pins must be connected to the GND plane.", G7 GND CENTERPAD (power) "These pins must be connected to the GND plane.", G8 GND CENTERPAD (power) "These pins must be connected to the GND plane.", G9 GND CENTERPAD (power) "These pins must be connected to the GND plane.", G10 GND CENTERPAD (power) "These pins must be connected to the GND plane.", H5 GND CENTERPAD (power) "These pins must be connected to the GND plane.", H6 GND CENTERPAD (power) "These pins must be connected to the GND plane.", H7 GND CENTERPAD (power) "These pins must be connected to the GND plane.", H8 GND CENTERPAD (power) "These pins must be connected to the GND plane.", H9 GND CENTERPAD (power) "These pins must be connected to the GND plane.", H10 GND CENTERPAD (power) "These pins must be connected to the GND plane.", J5 GND CENTERPAD (power) "These pins must be connected to the GND plane.", J6 GND CENTERPAD (power) "These pins must be connected to the GND plane.", J7 GND CENTERPAD (power) "These pins must be connected to the GND plane.", J8 GND CENTERPAD (power) "These pins must be connected to the GND plane.", J9 GND CENTERPAD (power) "These pins must be connected to the GND plane.", J10 GND CENTERPAD (power) "These pins must be connected to the GND plane.", K5 GND CENTERPAD (power) "These pins must be connected to the GND plane.", K6 GND CENTERPAD (power) "These pins must be connected to the GND plane.", K7 GND CENTERPAD (power) "These pins must be connected to the GND plane.", K8 GND CENTERPAD (power) "These pins must be connected to the GND plane.", K9 GND CENTERPAD (power) "These pins must be connected to the GND plane.", K10 GND CENTERPAD (power) "These pins must be connected to the GND plane."
part D pins: A5 GND (power) "Ground pin", A8 GND (power) "Ground pin", A11 GND (power) "Ground pin", B3 GND (power) "Ground pin", B4 VCC (power) "Power supply pin", B5 VCC (power) "Power supply pin", B6 GND (power) "Ground pin", B7 VCC (power) "Power supply pin", B8 VCC (power) "Power supply pin", B9 GND (power) "Ground pin", B10 VCC (power) "Power supply pin", B11 VCC (power) "Power supply pin", B12 GND (power) "Ground pin", B13 VCC (power) "Power supply pin", C4 GND (power) "Ground pin", C7 GND (power) "Ground pin", C10 GND (power) "Ground pin", D12 GND (power) "Ground pin", E13 VCC (power) "Power supply pin", F2 GND (power) "Ground pin", F13 GND (power) "Ground pin", G1 GND (power) "Ground pin", G2 VCC (power) "Power supply pin", G12 GND (power) "Ground pin", G13 VCC (power) "Power supply pin", H2 VCC (power) "Power supply pin", H3 GND (power) "Ground pin", H13 VCC (power) "Power supply pin", H14 GND (power) "Ground pin", J2 GND (power) "Ground pin", J13 GND (power) "Ground pin", K2 VCC (power) "Power supply pin", L3 GND (power) "Ground pin", M5 GND (power) "Ground pin", M8 GND (power) "Ground pin", M11 GND (power) "Ground pin", N3 GND (power) "Ground pin", N4 VCC (power) "Power supply pin", N5 VCC (power) "Power supply pin", N6 GND (power) "Ground pin", N7 VCC (power) "Power supply pin", N8 GND (power) "Ground pin", N9 GND (power) "Ground pin", N10 VCC (power) "Power supply pin", N11 VCC (power) "Power supply pin", N12 GND (power) "Ground pin", N13 VCC (power) "Power supply pin", P4 GND (power) "Ground pin", P7 GND (power) "Ground pin", P10 GND (power) "Ground pin"